# EAGLE library part WL-SFTD_2828 (library we-led)
WL-SFTD SMD Full-color Top LED Diffused Characteristics Industry standard size 3535 Matte and non-reflective surface High reliability Low energy consumtion Low current requirement MSL 5a Water-resistant IPx6 Applications Outdoor Full-Color Video Screen Decorative lighting Entertainment LED display screen Indicator Backlight <https://www.we-online.com/catalog/media/o135756v209%20Family_WL-SFTD-3535_150353M253300.jpg> Details see: https://www.we-online.com/catalog/en/WL-SFTD/ Created by Ella Wu 2019-12-17 2018 (C) Wurth Elektronik
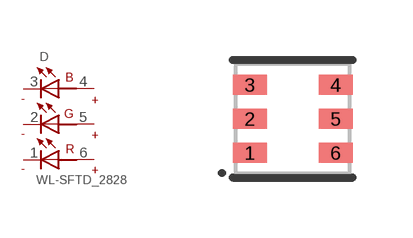
[diagram p0: symbol with the pads of WL-SFTD_2828; footprint WL-SFTD_2828]

Designator prefix D

## WL-SFTD_2828_150282M153300  [WL-SFTD_2828]
1  1  pas
2  2  pas
3  3  pas
4  4  pas
5  5  pas
6  6  pas

## Footprint WL-SFTD_2828 (pad centres in mm)
WL-SFTD SMT Full-color Top LED Diffused Size : 2828
smd 0.85 x 0.5: 1 -1.075,-0.85; 2 -1.075,0; 3 -1.075,0.85; 4 1.075,0.85; 5 1.075,0; 6 1.075,-0.85